# EAGLE library part DRC22-50P01 (library RescueRunner)
50 way DRC 01 key Receptacle with sealed inside flange and PCB mount, centerline pitch .174 inch/4.42 millimeters, an...
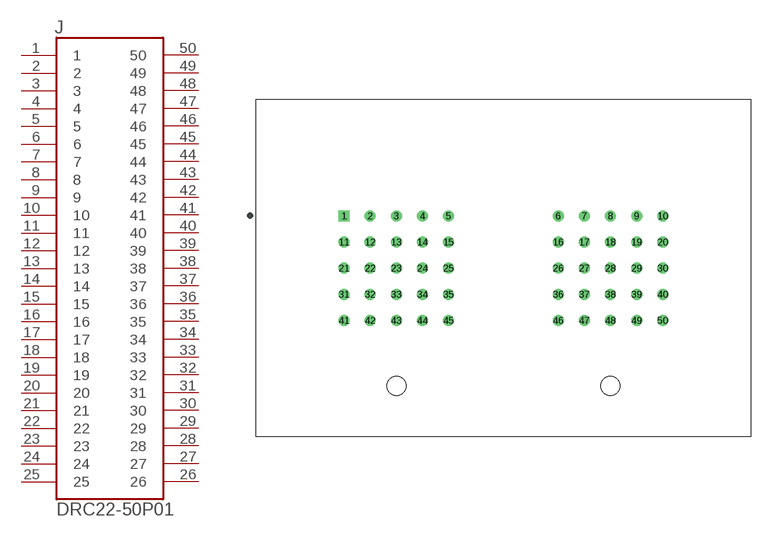
[diagram p24: symbol with the pads of TE_DRC22-50P01; footprint TE_DRC22-50P01]

Designator prefix J

## DRC22-50P01 (MANUFACTURER: TE Connectivity; PARTREV: E; STANDARD: Manufacturer Recommendation)  [TE_DRC22-50P01]
1  1  pas
2  2  pas
3  3  pas
4  4  pas
5  5  pas
6  6  pas
7  7  pas
8  8  pas
9  9  pas
10  10  pas
11  11  pas
12  12  pas
13  13  pas
14  14  pas
15  15  pas
16  16  pas
17  17  pas
18  18  pas
19  19  pas
20  20  pas
21  21  pas
22  22  pas
23  23  pas
24  24  pas
25  25  pas
26  26  pas
27  27  pas
28  28  pas
29  29  pas
30  30  pas
31  31  pas
32  32  pas
33  33  pas
34  34  pas
35  35  pas
36  36  pas
37  37  pas
38  38  pas
39  39  pas
40  40  pas
41  41  pas
42  42  pas
43  43  pas
44  44  pas
45  45  pas
46  46  pas
47  47  pas
48  48  pas
49  49  pas
50  50  pas

## Footprint TE_DRC22-50P01 (pad centres in mm)
drill 1.24 square: 1 -26.95,8.84
drill 1.24: 2 -22.53,8.84; 3 -18.11,8.84; 4 -13.69,8.84; 5 -9.27,8.84; 6 9.27,8.84; 7 13.69,8.84; 8 18.11,8.84; 9 22.53,8.84; 10 26.95,8.84; 11 -26.95,4.42; 12 -22.53,4.42; 13 -18.11,4.42; 14 -13.69,4.42; 15 -9.27,4.42; 16 9.27,4.42; 17 13.69,4.42; 18 18.11,4.42; 19 22.53,4.42; 20 26.95,4.42; 21 -26.95,0; 22 -22.53,0; 23 -18.11,0; 24 -13.69,0; 25 -9.27,0; 26 9.27,0; 27 13.69,0; 28 18.11,0; 29 22.53,0; 30 26.95,0; 31 -26.95,-4.42; 32 -22.53,-4.42; 33 -18.11,-4.42; 34 -13.69,-4.42; 35 -9.27,-4.42; 36 9.27,-4.42; 37 13.69,-4.42; 38 18.11,-4.42; 39 22.53,-4.42; 40 26.95,-4.42; 41 -26.95,-8.84; 42 -22.53,-8.84; 43 -18.11,-8.84; 44 -13.69,-8.84; 45 -9.27,-8.84; 46 9.27,-8.84; 47 13.69,-8.84; 48 18.11,-8.84; 49 22.53,-8.84; 50 26.95,-8.84
hole 3.2 at 18.11,-19.89
hole 3.2 at -18.11,-19.89